# EAGLE library part LT1999 (library myLib)
LT1999 High voltage bidirectional current sense amplifier WITH 8-PIN MSOP PACKAGING http://cds.linear.com/docs/en/datasheet/1999fb.pdf
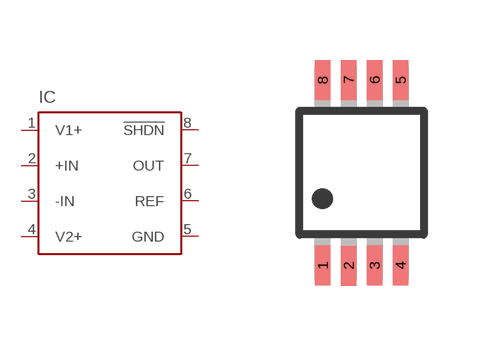
[diagram p4: symbol with the pads of LT1999-MSOP-8; footprint LT1999-MSOP-8]

Designator prefix IC

## LT1999  [LT1999-MSOP-8]
1  V1+  pwr
2  +IN  in
3  -IN  in
4  V2+  pwr
5  GND  pwr
6  REF  in
7  OUT  out
8  !SHDN  pwr

## Footprint LT1999-MSOP-8 (pad centres in mm)
smd 0.38 x 1: 1 -0.975,-2.32; 2 -0.325,-2.33; 3 0.325,-2.32; 4 0.975,-2.32; 5 0.975,2.32; 6 0.325,2.32; 7 -0.325,2.32; 8 -0.975,2.32